# Altium schematic symbol library LT7101IUHE#PBF.Schlib: 1 symbol
Pins are listed as number, name and electrical type; pins without a type are passive.

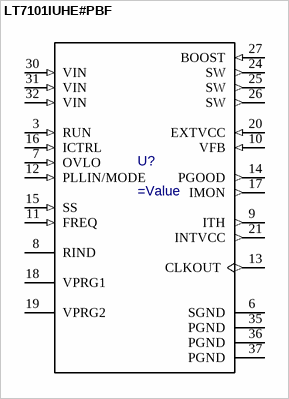
[diagram p0: symbol LT7101IUHE#PBF]

## LT7101IUHE#PBF
designator U?
Buck Switching Regulator IC Positive Adjustable 1V 1 Output 1A 36-WFQFN, 26 Leads, Exposed Pad
pins: 3 RUN (in), 6 SGND (power), 7 OVLO (in), 8 RIND, 9 ITH (out), 10 VFB (in), 11 FREQ (in), 12 PLLIN/MODE (in), 13 CLKOUT (out), 14 PGOOD (out), 15 SS (in), 16 ICTRL (in), 17 IMON (out), 18 VPRG1, 19 VPRG2, 20 EXTVCC (in), 21 INTVCC (out), 24 SW (out), 25 SW (out), 26 SW (out), 27 BOOST (in), 30 VIN (in), 31 VIN (in), 32 VIN (in), 35 PGND (power), 36 PGND (power), 37 PGND (power)